# Altium footprint library ul_IS62WV1288BLL55HLI.PcbLib: 3 footprints
Each footprint in its own frame and in the unit in brackets; x right, y up, seen from the top. Pads: shape width x height; smd on the part's side, far side on the other; paste and mask are expansions set on the pad; w line width, h text height; cw(c..) or ccw(c..) is an arc to the next point about the centre after c.
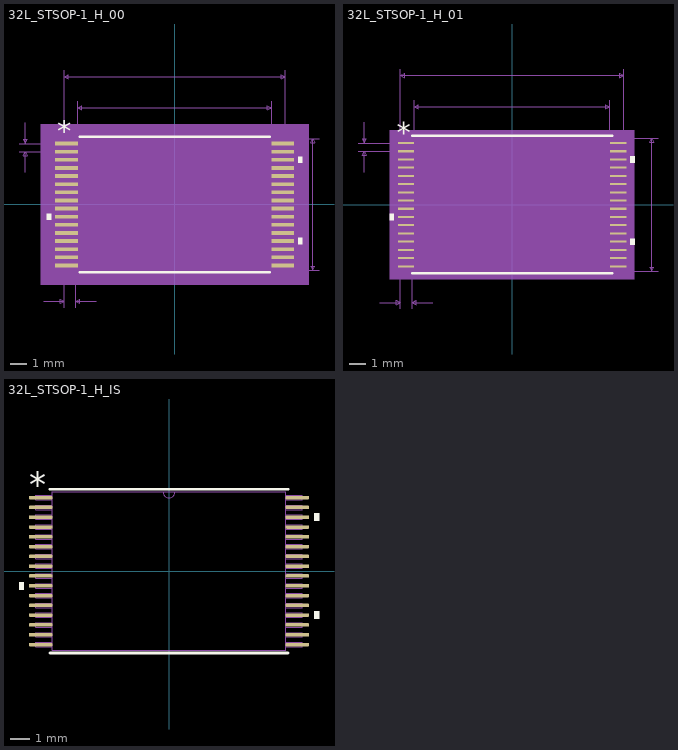
[diagram p0: the footprints below, top view; thin cyan lines are the x and y axes]

## 32L_STSOP-1_H_00 [mil]
pads (32):
  rect 55x9 smd paste+0 mask+0: 1(-262,147.64) 2(-262,127.95) 3(-262,108.27) 4(-262,88.58) 5(-262,68.9) 6(-262,49.21) 7(-262,29.53) 8(-262,9.84) 9(-262,-9.84) 10(-262,-29.53) 11(-262,-49.21) 12(-262,-68.9) 13(-262,-88.58) 14(-262,-108.27) 15(-262,-127.95) 16(-262,-147.64) 17(262,-147.64) 18(262,-127.95) 19(262,-108.27) 20(262,-88.58) 21(262,-68.9) 22(262,-49.21) 23(262,-29.53) 24(262,-9.84) 25(262,9.84) 26(262,29.53) 27(262,49.21) 28(262,68.9) 29(262,88.58) 30(262,108.27) 31(262,127.95) 32(262,147.64)
Top Overlay:
  region: -299.5,-22.03 -309.5,-22.03 -309.5,-37.03 -299.5,-37.03
  region: 299.5,-81.08 309.5,-81.08 309.5,-96.08 299.5,-96.08
  region: 299.5,115.77 309.5,115.77 309.5,100.77 299.5,100.77
  lines w6: -230.17,-164.5 230.17,-164.5 ; -230.17,164.5 230.17,164.5
  text "*" at -284.5,151.64 h50
Mechanical 5:
  region: 324.5,-194.5 -324.5,-194.5 -324.5,194.5 324.5,194.5
Mechanical 7:
  lines w1: -377,127.95 -262,127.95 ; -377,147.64 -262,147.64 ; -362,77.95 -362,127.95 ; -362,197.64 -362,147.64 ; -317.5,-234.5 -267.5,-234.5 ; -267.5,-249.5 -267.5,0 -267.5,324.5 ; -239.5,-249.5 -239.5,0 ; -234.5,0 -234.5,249.5 ; -189.5,-234.5 -239.5,-234.5 ; 0,-159.5 349.5,-159.5 ; 0,159.5 349.5,159.5 ; 234.5,0 234.5,249.5 ; 267.5,0 267.5,324.5 ; -362,127.95 -367,117.95 -357,117.95 -362,127.95 ; -362,147.64 -367,157.64 -357,157.64 -362,147.64 ; -267.5,-234.5 -277.5,-229.5 -277.5,-239.5 -267.5,-234.5 ; -267.5,309.5 267.5,309.5 ; -267.5,309.5 -257.5,314.5 -257.5,304.5 -267.5,309.5 ; -239.5,-234.5 -229.5,-229.5 -229.5,-239.5 -239.5,-234.5 ; -234.5,234.5 234.5,234.5 ; -234.5,234.5 -224.5,239.5 -224.5,229.5 -234.5,234.5 ; 234.5,234.5 224.5,239.5 224.5,229.5 234.5,234.5 ; 267.5,309.5 257.5,314.5 257.5,304.5 267.5,309.5 ; 334.5,-159.5 334.5,159.5 ; 334.5,-159.5 329.5,-149.5 339.5,-149.5 334.5,-159.5 ; 334.5,159.5 329.5,149.5 339.5,149.5 334.5,159.5
  text "Default Padstyle: RX55Y9D0T" at -337.5,-359.5 h50
  text "Pin One Padstyle: RX55Y9D0T" at -337.5,-419.5 h50
  text "Alt 1 Padstyle: OX60Y90D30P" at -337.5,-599.5 h50
  text "Alt 2 Padstyle: OX90Y60D30P" at -337.5,-659.5 h50
  text "0.469in/11.913mm" at -100,254.5 h25
  text "0.535in/13.589mm" at -100,329.5 h25
  text "0.319in/8.103mm" at 354.5,-12.5 h25
  text "0.02in/0.5mm" at -532,125.3 h25
  text "0.028in/0.711mm" at -347.25,-279.5 h25
Mechanical 13:
  lines w0: -12,159.5 ccw(c0,159.5) 12,159.5
  lines w1: -267.5,-152.14 -267.5,-143.14 -234.5,-143.14 -234.5,-152.14 -267.5,-152.14 ; -267.5,-132.45 -267.5,-123.45 -234.5,-123.45 -234.5,-132.45 -267.5,-132.45 ; -267.5,-112.77 -267.5,-103.77 -234.5,-103.77 -234.5,-112.77 -267.5,-112.77 ; -267.5,-93.08 -267.5,-84.08 -234.5,-84.08 -234.5,-93.08 -267.5,-93.08 ; -267.5,-73.4 -267.5,-64.4 -234.5,-64.4 -234.5,-73.4 -267.5,-73.4 ; -267.5,-53.71 -267.5,-44.71 -234.5,-44.71 -234.5,-53.71 -267.5,-53.71 ; -267.5,-34.03 -267.5,-25.03 -234.5,-25.03 -234.5,-34.03 -267.5,-34.03 ; -267.5,-14.34 -267.5,-5.34 -234.5,-5.34 -234.5,-14.34 -267.5,-14.34 ; -267.5,5.34 -267.5,14.34 -234.5,14.34 -234.5,5.34 -267.5,5.34 ; -267.5,25.03 -267.5,34.03 -234.5,34.03 -234.5,25.03 -267.5,25.03 ; -267.5,44.71 -267.5,53.71 -234.5,53.71 -234.5,44.71 -267.5,44.71 ; -267.5,64.4 -267.5,73.4 -234.5,73.4 -234.5,64.4 -267.5,64.4 ; -267.5,84.08 -267.5,93.08 -234.5,93.08 -234.5,84.08 -267.5,84.08 ; -267.5,103.77 -267.5,112.77 -234.5,112.77 -234.5,103.77 -267.5,103.77 ; -267.5,123.45 -267.5,132.45 -234.5,132.45 -234.5,123.45 -267.5,123.45 ; -267.5,143.14 -267.5,152.14 -234.5,152.14 -234.5,143.14 -267.5,143.14 ; -234.5,-159.5 234.5,-159.5 234.5,159.5 -234.5,159.5 -234.5,-159.5 ; 234.5,-152.14 234.5,-143.14 267.5,-143.14 267.5,-152.14 234.5,-152.14 ; 234.5,-132.45 234.5,-123.45 267.5,-123.45 267.5,-132.45 234.5,-132.45 ; 234.5,-112.77 234.5,-103.77 267.5,-103.77 267.5,-112.77 234.5,-112.77 ; 234.5,-93.08 234.5,-84.08 267.5,-84.08 267.5,-93.08 234.5,-93.08 ; 234.5,-73.4 234.5,-64.4 267.5,-64.4 267.5,-73.4 234.5,-73.4 ; 234.5,-53.71 234.5,-44.71 267.5,-44.71 267.5,-53.71 234.5,-53.71 ; 234.5,-34.03 234.5,-25.03 267.5,-25.03 267.5,-34.03 234.5,-34.03 ; 234.5,-14.34 234.5,-5.34 267.5,-5.34 267.5,-14.34 234.5,-14.34 ; 234.5,5.34 234.5,14.34 267.5,14.34 267.5,5.34 234.5,5.34 ; 234.5,25.03 234.5,34.03 267.5,34.03 267.5,25.03 234.5,25.03 ; 234.5,44.71 234.5,53.71 267.5,53.71 267.5,44.71 234.5,44.71 ; 234.5,64.4 234.5,73.4 267.5,73.4 267.5,64.4 234.5,64.4 ; 234.5,84.08 234.5,93.08 267.5,93.08 267.5,84.08 234.5,84.08 ; 234.5,103.77 234.5,112.77 267.5,112.77 267.5,103.77 234.5,103.77 ; 234.5,123.45 234.5,132.45 267.5,132.45 267.5,123.45 234.5,123.45 ; 234.5,143.14 234.5,152.14 267.5,152.14 267.5,143.14 234.5,143.14
  text "*" at -232,106.5 h50
Mechanical 15:
  region: -254.5,-172.14 -309.5,-172.14 -309.5,172.14 -254.5,172.14 -254.5,179.5 254.5,179.5 254.5,172.14 309.5,172.14 309.5,-172.14 254.5,-172.14 254.5,-179.5 -254.5,-179.5
  lines w6: -309.5,-172.14 -309.5,172.14 -254.5,172.14 -254.5,179.5 254.5,179.5 254.5,172.14 309.5,172.14 309.5,-172.14 254.5,-172.14 254.5,-179.5 -254.5,-179.5 -254.5,-172.14 -309.5,-172.14
3D body: height 10, standoff 0, extent 0,0 10,10

## 32L_STSOP-1_H_01 [mil]
pads (32):
  rect 39x5 smd paste+0 mask+0: 1(-254,147.64) 2(-254,127.95) 3(-254,108.27) 4(-254,88.58) 5(-254,68.9) 6(-254,49.21) 7(-254,29.53) 8(-254,9.84) 9(-254,-9.84) 10(-254,-29.53) 11(-254,-49.21) 12(-254,-68.9) 13(-254,-88.58) 14(-254,-108.27) 15(-254,-127.95) 16(-254,-147.64) 17(254,-147.64) 18(254,-127.95) 19(254,-108.27) 20(254,-88.58) 21(254,-68.9) 22(254,-49.21) 23(254,-29.53) 24(254,-9.84) 25(254,9.84) 26(254,29.53) 27(254,49.21) 28(254,68.9) 29(254,88.58) 30(254,108.27) 31(254,127.95) 32(254,147.64)
Top Overlay:
  region: 283.5,115.77 293.5,115.77 293.5,100.77 283.5,100.77
  region: 283.5,-81.08 293.5,-81.08 293.5,-96.08 283.5,-96.08
  region: -283.5,-22.03 -293.5,-22.03 -293.5,-37.03 -283.5,-37.03
  lines w6: -239.5,-164.5 239.5,-164.5 ; -239.5,164.5 239.5,164.5
  text "*" at -276.5,147.64 h50
Mechanical 5:
  region: 292.5,-178.5 -292.5,-178.5 -292.5,178.5 292.5,178.5
Mechanical 7:
  lines w1: -369,127.95 -254,127.95 ; -369,147.64 -254,147.64 ; -354,77.95 -354,127.95 ; -354,197.64 -354,147.64 ; -317.5,-234.5 -267.5,-234.5 ; -267.5,-249.5 -267.5,0 -267.5,324.5 ; -239.5,-249.5 -239.5,0 ; -234.5,0 -234.5,249.5 ; -189.5,-234.5 -239.5,-234.5 ; 0,-159.5 349.5,-159.5 ; 0,159.5 349.5,159.5 ; 234.5,0 234.5,249.5 ; 267.5,0 267.5,324.5 ; -354,127.95 -349,117.95 -359,117.95 -354,127.95 ; -354,147.64 -349,157.64 -359,157.64 -354,147.64 ; -267.5,-234.5 -277.5,-239.5 -277.5,-229.5 -267.5,-234.5 ; -267.5,309.5 -257.5,304.5 -257.5,314.5 -267.5,309.5 ; -267.5,309.5 267.5,309.5 ; -239.5,-234.5 -229.5,-239.5 -229.5,-229.5 -239.5,-234.5 ; -234.5,234.5 -224.5,229.5 -224.5,239.5 -234.5,234.5 ; -234.5,234.5 234.5,234.5 ; 234.5,234.5 224.5,229.5 224.5,239.5 234.5,234.5 ; 267.5,309.5 257.5,304.5 257.5,314.5 267.5,309.5 ; 334.5,-159.5 339.5,-149.5 329.5,-149.5 334.5,-159.5 ; 334.5,-159.5 334.5,159.5 ; 334.5,159.5 339.5,149.5 329.5,149.5 334.5,159.5
  text "0.028in/0.711mm" at -347.25,-279.5 h25
  text "0.02in/0.5mm" at -524,125.3 h25
  text "0.319in/8.103mm" at 354.5,-12.5 h25
  text "0.535in/13.589mm" at -100,329.5 h25
  text "0.469in/11.913mm" at -100,254.5 h25
  text "Alt 2 Padstyle: OX90Y60D30P" at -337.5,-659.5 h50
  text "Alt 1 Padstyle: OX60Y90D30P" at -337.5,-599.5 h50
  text "Pin One Padstyle: RX39Y5D0T" at -337.5,-419.5 h50
  text "Default Padstyle: RX39Y5D0T" at -337.5,-359.5 h50
Mechanical 13:
  lines w0: -12,159.5 ccw(c0,159.5) 12,159.5
  lines w1: -267.5,-152.14 -234.5,-152.14 -234.5,-143.14 -267.5,-143.14 -267.5,-152.14 ; -267.5,-132.45 -234.5,-132.45 -234.5,-123.45 -267.5,-123.45 -267.5,-132.45 ; -267.5,-112.77 -234.5,-112.77 -234.5,-103.77 -267.5,-103.77 -267.5,-112.77 ; -267.5,-93.08 -234.5,-93.08 -234.5,-84.08 -267.5,-84.08 -267.5,-93.08 ; -267.5,-73.4 -234.5,-73.4 -234.5,-64.4 -267.5,-64.4 -267.5,-73.4 ; -267.5,-53.71 -234.5,-53.71 -234.5,-44.71 -267.5,-44.71 -267.5,-53.71 ; -267.5,-34.03 -234.5,-34.03 -234.5,-25.03 -267.5,-25.03 -267.5,-34.03 ; -267.5,-14.34 -234.5,-14.34 -234.5,-5.34 -267.5,-5.34 -267.5,-14.34 ; -267.5,5.34 -234.5,5.34 -234.5,14.34 -267.5,14.34 -267.5,5.34 ; -267.5,25.03 -234.5,25.03 -234.5,34.03 -267.5,34.03 -267.5,25.03 ; -267.5,44.71 -234.5,44.71 -234.5,53.71 -267.5,53.71 -267.5,44.71 ; -267.5,64.4 -234.5,64.4 -234.5,73.4 -267.5,73.4 -267.5,64.4 ; -267.5,84.08 -234.5,84.08 -234.5,93.08 -267.5,93.08 -267.5,84.08 ; -267.5,103.77 -234.5,103.77 -234.5,112.77 -267.5,112.77 -267.5,103.77 ; -267.5,123.45 -234.5,123.45 -234.5,132.45 -267.5,132.45 -267.5,123.45 ; -267.5,143.14 -234.5,143.14 -234.5,152.14 -267.5,152.14 -267.5,143.14 ; -234.5,-159.5 -234.5,159.5 234.5,159.5 234.5,-159.5 -234.5,-159.5 ; 234.5,-152.14 267.5,-152.14 267.5,-143.14 234.5,-143.14 234.5,-152.14 ; 234.5,-132.45 267.5,-132.45 267.5,-123.45 234.5,-123.45 234.5,-132.45 ; 234.5,-112.77 267.5,-112.77 267.5,-103.77 234.5,-103.77 234.5,-112.77 ; 234.5,-93.08 267.5,-93.08 267.5,-84.08 234.5,-84.08 234.5,-93.08 ; 234.5,-73.4 267.5,-73.4 267.5,-64.4 234.5,-64.4 234.5,-73.4 ; 234.5,-53.71 267.5,-53.71 267.5,-44.71 234.5,-44.71 234.5,-53.71 ; 234.5,-34.03 267.5,-34.03 267.5,-25.03 234.5,-25.03 234.5,-34.03 ; 234.5,-14.34 267.5,-14.34 267.5,-5.34 234.5,-5.34 234.5,-14.34 ; 234.5,5.34 267.5,5.34 267.5,14.34 234.5,14.34 234.5,5.34 ; 234.5,25.03 267.5,25.03 267.5,34.03 234.5,34.03 234.5,25.03 ; 234.5,44.71 267.5,44.71 267.5,53.71 234.5,53.71 234.5,44.71 ; 234.5,64.4 267.5,64.4 267.5,73.4 234.5,73.4 234.5,64.4 ; 234.5,84.08 267.5,84.08 267.5,93.08 234.5,93.08 234.5,84.08 ; 234.5,103.77 267.5,103.77 267.5,112.77 234.5,112.77 234.5,103.77 ; 234.5,123.45 267.5,123.45 267.5,132.45 234.5,132.45 234.5,123.45 ; 234.5,143.14 267.5,143.14 267.5,152.14 234.5,152.14 234.5,143.14
  text "*" at -232,106.5 h50
Mechanical 15:
  region: -238.5,-154.14 -277.5,-154.14 -277.5,154.14 -238.5,154.14 -238.5,163.5 238.5,163.5 238.5,154.14 277.5,154.14 277.5,-154.14 238.5,-154.14 238.5,-163.5 -238.5,-163.5
  lines w6: -277.5,-154.14 -238.5,-154.14 -238.5,-163.5 238.5,-163.5 238.5,-154.14 277.5,-154.14 277.5,154.14 238.5,154.14 238.5,163.5 -238.5,163.5 -238.5,154.14 -277.5,154.14 -277.5,-154.14
3D body: height 10, standoff 0, extent 0,0 10,10

## 32L_STSOP-1_H_IS [mil]
pads (32):
  rrect50% 47x7 smd paste+0 mask+4: 1(-258,147.64) 2(-258,127.95) 3(-258,108.27) 4(-258,88.58) 5(-258,68.9) 6(-258,49.21) 7(-258,29.53) 8(-258,9.84) 9(-258,-9.84) 10(-258,-29.53) 11(-258,-49.21) 12(-258,-68.9) 13(-258,-88.58) 14(-258,-108.27) 15(-258,-127.95) 16(-258,-147.64) 17(258,-147.64) 18(258,-127.95) 19(258,-108.27) 20(258,-88.58) 21(258,-68.9) 22(258,-49.21) 23(258,-29.53) 24(258,-9.84) 25(258,9.84) 26(258,29.53) 27(258,49.21) 28(258,68.9) 29(258,88.58) 30(258,108.27) 31(258,127.95) 32(258,147.64)
Top Overlay:
  region: -291.5,-22.03 -301.5,-22.03 -301.5,-37.03 -291.5,-37.03
  region: 291.5,-81.08 301.5,-81.08 301.5,-96.08 291.5,-96.08
  region: 291.5,115.77 301.5,115.77 301.5,100.77 291.5,100.77
  lines w6: -239.5,-164.5 239.5,-164.5 ; -239.5,164.5 239.5,164.5
  text "*" at -280.5,149.64 h50
Mechanical 13:
  lines w0: -12,159.5 ccw(c0,159.5) 12,159.5
  lines w1: -267.5,-152.14 -267.5,-143.14 -234.5,-143.14 -234.5,-152.14 -267.5,-152.14 ; -267.5,-132.45 -267.5,-123.45 -234.5,-123.45 -234.5,-132.45 -267.5,-132.45 ; -267.5,-112.77 -267.5,-103.77 -234.5,-103.77 -234.5,-112.77 -267.5,-112.77 ; -267.5,-93.08 -267.5,-84.08 -234.5,-84.08 -234.5,-93.08 -267.5,-93.08 ; -267.5,-73.4 -267.5,-64.4 -234.5,-64.4 -234.5,-73.4 -267.5,-73.4 ; -267.5,-53.71 -267.5,-44.71 -234.5,-44.71 -234.5,-53.71 -267.5,-53.71 ; -267.5,-34.03 -267.5,-25.03 -234.5,-25.03 -234.5,-34.03 -267.5,-34.03 ; -267.5,-14.34 -267.5,-5.34 -234.5,-5.34 -234.5,-14.34 -267.5,-14.34 ; -267.5,5.34 -267.5,14.34 -234.5,14.34 -234.5,5.34 -267.5,5.34 ; -267.5,25.03 -267.5,34.03 -234.5,34.03 -234.5,25.03 -267.5,25.03 ; -267.5,44.71 -267.5,53.71 -234.5,53.71 -234.5,44.71 -267.5,44.71 ; -267.5,64.4 -267.5,73.4 -234.5,73.4 -234.5,64.4 -267.5,64.4 ; -267.5,84.08 -267.5,93.08 -234.5,93.08 -234.5,84.08 -267.5,84.08 ; -267.5,103.77 -267.5,112.77 -234.5,112.77 -234.5,103.77 -267.5,103.77 ; -267.5,123.45 -267.5,132.45 -234.5,132.45 -234.5,123.45 -267.5,123.45 ; -267.5,143.14 -267.5,152.14 -234.5,152.14 -234.5,143.14 -267.5,143.14 ; -234.5,-159.5 234.5,-159.5 234.5,159.5 -234.5,159.5 -234.5,-159.5 ; 234.5,-152.14 234.5,-143.14 267.5,-143.14 267.5,-152.14 234.5,-152.14 ; 234.5,-132.45 234.5,-123.45 267.5,-123.45 267.5,-132.45 234.5,-132.45 ; 234.5,-112.77 234.5,-103.77 267.5,-103.77 267.5,-112.77 234.5,-112.77 ; 234.5,-93.08 234.5,-84.08 267.5,-84.08 267.5,-93.08 234.5,-93.08 ; 234.5,-73.4 234.5,-64.4 267.5,-64.4 267.5,-73.4 234.5,-73.4 ; 234.5,-53.71 234.5,-44.71 267.5,-44.71 267.5,-53.71 234.5,-53.71 ; 234.5,-34.03 234.5,-25.03 267.5,-25.03 267.5,-34.03 234.5,-34.03 ; 234.5,-14.34 234.5,-5.34 267.5,-5.34 267.5,-14.34 234.5,-14.34 ; 234.5,5.34 234.5,14.34 267.5,14.34 267.5,5.34 234.5,5.34 ; 234.5,25.03 234.5,34.03 267.5,34.03 267.5,25.03 234.5,25.03 ; 234.5,44.71 234.5,53.71 267.5,53.71 267.5,44.71 234.5,44.71 ; 234.5,64.4 234.5,73.4 267.5,73.4 267.5,64.4 234.5,64.4 ; 234.5,84.08 234.5,93.08 267.5,93.08 267.5,84.08 234.5,84.08 ; 234.5,103.77 234.5,112.77 267.5,112.77 267.5,103.77 234.5,103.77 ; 234.5,123.45 234.5,132.45 267.5,132.45 267.5,123.45 234.5,123.45 ; 234.5,143.14 234.5,152.14 267.5,152.14 267.5,143.14 234.5,143.14
  text "*" at -232,106.5 h50
3D body "32L_STSOP-1_H_ISI-M.step": height 49.09, standoff 0, extent -267.51,-159.48 267.53,159.5
3D body: height 10, standoff 0, extent 0,0 10,10